# EAGLE library part TPS61099X (library 32teeth - TPS61099x)
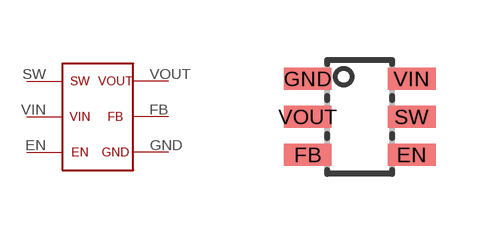
[diagram p0: symbol with the pads of TPS61099X; footprint TPS61099X]

Designator prefix -

## TPS61099X  [TPS61099X]
EN  EN
FB  FB
GND  GND
SW  SW
VIN  VIN
VOUT  VOUT

## Footprint TPS61099X (pad centres in mm)
smd 1.2 x 0.55: EN 1.3,-0.95; FB -1.3,-0.95; GND -1.3,0.95; SW 1.3,0; VIN 1.3,0.95; VOUT -1.3,0